# Altium footprint library Interface.PcbLib: 169 footprints (part 5 of 11)
Each footprint in its own frame and in the unit in brackets; x right, y up, seen from the top. Pads: shape width x height; smd on the part's side, far side on the other; paste and mask are expansions set on the pad; w line width, h text height; cw(c..) or ccw(c..) is an arc to the next point about the centre after c.
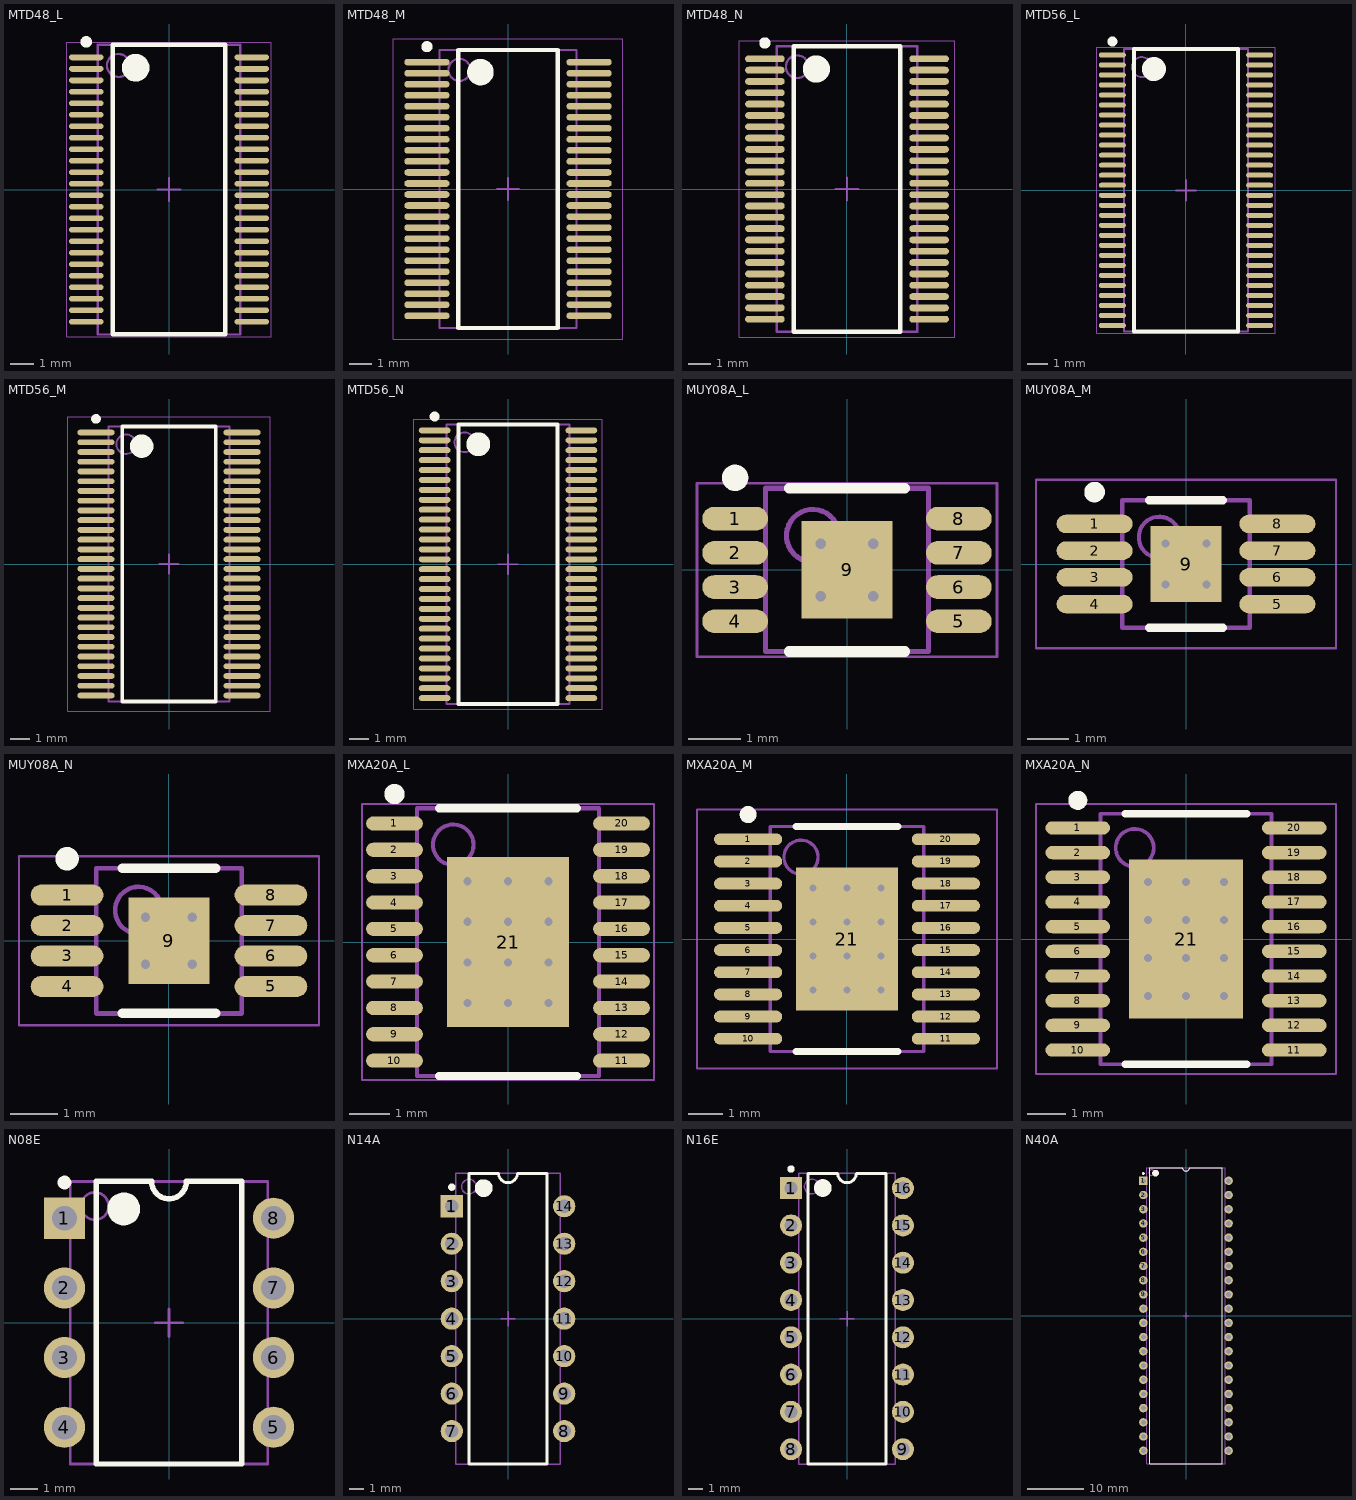
[diagram p4: the footprints below, top view; thin cyan lines are the x and y axes]

## MTD48_L [mm] "TSSOP, 48-Leads, Body 12.5x6.1mm, Pitch 0.5mm, IPC High Density"
height 1.1
pads (48):
  oval 1.5x0.25 smd: 1(-3.6,5.75) 2(-3.6,5.25) 3(-3.6,4.75) 4(-3.6,4.25) 5(-3.6,3.75) 6(-3.6,3.25) 7(-3.6,2.75) 8(-3.6,2.25) 9(-3.6,1.75) 10(-3.6,1.25) 11(-3.6,0.75) 12(-3.6,0.25) 13(-3.6,-0.25) 14(-3.6,-0.75) 15(-3.6,-1.25) 16(-3.6,-1.75) 17(-3.6,-2.25) 18(-3.6,-2.75) 19(-3.6,-3.25) 20(-3.6,-3.75) 21(-3.6,-4.25) 22(-3.6,-4.75) 23(-3.6,-5.25) 24(-3.6,-5.75) 25(3.6,-5.75) 26(3.6,-5.25) 27(3.6,-4.75) 28(3.6,-4.25) 29(3.6,-3.75) 30(3.6,-3.25) 31(3.6,-2.75) 32(3.6,-2.25) 33(3.6,-1.75) 34(3.6,-1.25) 35(3.6,-0.75) 36(3.6,-0.25) 37(3.6,0.25) 38(3.6,0.75) 39(3.6,1.25) 40(3.6,1.75) 41(3.6,2.25) 42(3.6,2.75) 43(3.6,3.25) 44(3.6,3.75) 45(3.6,4.25) 46(3.6,4.75) 47(3.6,5.25) 48(3.6,5.75)
Top Overlay:
  circle w0.6: c-1.45,5.3 r0.3
  circle w0.25: c-3.6,6.425 r0.125
  lines w0.2: -2.45,-6.3 2.45,-6.3 2.45,6.3 -2.45,6.3 -2.45,-6.3
Mechanical 13:
  circle w0.1: c-2.2,5.4 r0.5
  lines w0.1: -3.1,-6.3 3.1,-6.3 3.1,6.3 -3.1,6.3 -3.1,-6.3
Mechanical 15:
  lines w0.05: -4.45,-6.4 4.45,-6.4 4.45,6.4 -4.45,6.4 -4.45,-6.4
  lines w0.1: -0.5,0 0.5,0 ; 0,-0.5 0,0.5
3D body: height 1.1, standoff 0.05, extent -3.1,-6.3 3.1,6.3

## MTD48_M [mm] "TSSOP, 48-Leads, Body 12.5x6.1mm, Pitch 0.5mm, IPC Low Density"
height 1.1
pads (48):
  oval 2.05x0.3 smd: 1(-3.675,5.75) 2(-3.675,5.25) 3(-3.675,4.75) 4(-3.675,4.25) 5(-3.675,3.75) 6(-3.675,3.25) 7(-3.675,2.75) 8(-3.675,2.25) 9(-3.675,1.75) 10(-3.675,1.25) 11(-3.675,0.75) 12(-3.675,0.25) 13(-3.675,-0.25) 14(-3.675,-0.75) 15(-3.675,-1.25) 16(-3.675,-1.75) 17(-3.675,-2.25) 18(-3.675,-2.75) 19(-3.675,-3.25) 20(-3.675,-3.75) 21(-3.675,-4.25) 22(-3.675,-4.75) 23(-3.675,-5.25) 24(-3.675,-5.75) 25(3.675,-5.75) 26(3.675,-5.25) 27(3.675,-4.75) 28(3.675,-4.25) 29(3.675,-3.75) 30(3.675,-3.25) 31(3.675,-2.75) 32(3.675,-2.25) 33(3.675,-1.75) 34(3.675,-1.25) 35(3.675,-0.75) 36(3.675,-0.25) 37(3.675,0.25) 38(3.675,0.75) 39(3.675,1.25) 40(3.675,1.75) 41(3.675,2.25) 42(3.675,2.75) 43(3.675,3.25) 44(3.675,3.75) 45(3.675,4.25) 46(3.675,4.75) 47(3.675,5.25) 48(3.675,5.75)
Top Overlay:
  circle w0.6: c-1.25,5.3 r0.3
  circle w0.25: c-3.675,6.45 r0.125
  lines w0.2: -2.25,-6.3 2.25,-6.3 2.25,6.3 -2.25,6.3 -2.25,-6.3
Mechanical 13:
  circle w0.1: c-2.2,5.4 r0.5
  lines w0.1: -3.1,-6.3 3.1,-6.3 3.1,6.3 -3.1,6.3 -3.1,-6.3
Mechanical 15:
  lines w0.05: -5.2,-6.8 5.2,-6.8 5.2,6.8 -5.2,6.8 -5.2,-6.8
  lines w0.1: -0.5,0 0.5,0 ; 0,-0.5 0,0.5
3D body: height 1.1, standoff 0.05, extent -3.1,-6.3 3.1,6.3

## MTD48_N [mm] "TSSOP, 48-Leads, Body 12.5x6.1mm, Pitch 0.5mm, IPC Medium Density"
height 1.1
pads (48):
  oval 1.75x0.3 smd: 1(-3.625,5.75) 2(-3.625,5.25) 3(-3.625,4.75) 4(-3.625,4.25) 5(-3.625,3.75) 6(-3.625,3.25) 7(-3.625,2.75) 8(-3.625,2.25) 9(-3.625,1.75) 10(-3.625,1.25) 11(-3.625,0.75) 12(-3.625,0.25) 13(-3.625,-0.25) 14(-3.625,-0.75) 15(-3.625,-1.25) 16(-3.625,-1.75) 17(-3.625,-2.25) 18(-3.625,-2.75) 19(-3.625,-3.25) 20(-3.625,-3.75) 21(-3.625,-4.25) 22(-3.625,-4.75) 23(-3.625,-5.25) 24(-3.625,-5.75) 25(3.625,-5.75) 26(3.625,-5.25) 27(3.625,-4.75) 28(3.625,-4.25) 29(3.625,-3.75) 30(3.625,-3.25) 31(3.625,-2.75) 32(3.625,-2.25) 33(3.625,-1.75) 34(3.625,-1.25) 35(3.625,-0.75) 36(3.625,-0.25) 37(3.625,0.25) 38(3.625,0.75) 39(3.625,1.25) 40(3.625,1.75) 41(3.625,2.25) 42(3.625,2.75) 43(3.625,3.25) 44(3.625,3.75) 45(3.625,4.25) 46(3.625,4.75) 47(3.625,5.25) 48(3.625,5.75)
Top Overlay:
  circle w0.6: c-1.35,5.3 r0.3
  circle w0.25: c-3.625,6.45 r0.125
  lines w0.2: -2.35,-6.3 2.35,-6.3 2.35,6.3 -2.35,6.3 -2.35,-6.3
Mechanical 13:
  circle w0.1: c-2.2,5.4 r0.5
  lines w0.1: -3.1,-6.3 3.1,-6.3 3.1,6.3 -3.1,6.3 -3.1,-6.3
Mechanical 15:
  lines w0.05: -4.75,-6.55 4.75,-6.55 4.75,6.55 -4.75,6.55 -4.75,-6.55
  lines w0.1: -0.5,0 0.5,0 ; 0,-0.5 0,0.5
3D body: height 1.1, standoff 0.05, extent -3.1,-6.3 3.1,6.3

## MTD56_L [mm] "TSSOP, 56-Leads, Body 14x6.1mm, Pitch 0.5mm, IPC High Density"
height 1.1
pads (56):
  oval 1.35x0.25 smd: 1(-3.675,6.75) 2(-3.675,6.25) 3(-3.675,5.75) 4(-3.675,5.25) 5(-3.675,4.75) 6(-3.675,4.25) 7(-3.675,3.75) 8(-3.675,3.25) 9(-3.675,2.75) 10(-3.675,2.25) 11(-3.675,1.75) 12(-3.675,1.25) 13(-3.675,0.75) 14(-3.675,0.25) 15(-3.675,-0.25) 16(-3.675,-0.75) 17(-3.675,-1.25) 18(-3.675,-1.75) 19(-3.675,-2.25) 20(-3.675,-2.75) 21(-3.675,-3.25) 22(-3.675,-3.75) 23(-3.675,-4.25) 24(-3.675,-4.75) 25(-3.675,-5.25) 26(-3.675,-5.75) 27(-3.675,-6.25) 28(-3.675,-6.75) 29(3.675,-6.75) 30(3.675,-6.25) 31(3.675,-5.75) 32(3.675,-5.25) 33(3.675,-4.75) 34(3.675,-4.25) 35(3.675,-3.75) 36(3.675,-3.25) 37(3.675,-2.75) 38(3.675,-2.25) 39(3.675,-1.75) 40(3.675,-1.25) 41(3.675,-0.75) 42(3.675,-0.25) 43(3.675,0.25) 44(3.675,0.75) 45(3.675,1.25) 46(3.675,1.75) 47(3.675,2.25) 48(3.675,2.75) 49(3.675,3.25) 50(3.675,3.75) 51(3.675,4.25) 52(3.675,4.75) 53(3.675,5.25) 54(3.675,5.75) 55(3.675,6.25) 56(3.675,6.75)
Top Overlay:
  circle w0.6: c-1.6,6.05 r0.3
  circle w0.25: c-3.675,7.425 r0.125
  lines w0.2: -2.6,-7.05 2.6,-7.05 2.6,7.05 -2.6,7.05 -2.6,-7.05
Mechanical 13:
  circle w0.1: c-2.2,6.15 r0.5
  lines w0.1: -3.1,-7.05 3.1,-7.05 3.1,7.05 -3.1,7.05 -3.1,-7.05
Mechanical 15:
  lines w0.05: -4.45,-7.15 4.45,-7.15 4.45,7.15 -4.45,7.15 -4.45,-7.15
  lines w0.1: -0.5,0 0.5,0 ; 0,-0.5 0,0.5
3D body: height 1.1, standoff 0.05, extent -3.1,-7.05 3.1,7.05

## MTD56_M [mm] "TSSOP, 56-Leads, Body 14x6.1mm, Pitch 0.5mm, IPC Low Density"
height 1.1
pads (56):
  oval 1.9x0.3 smd: 1(-3.75,6.75) 2(-3.75,6.25) 3(-3.75,5.75) 4(-3.75,5.25) 5(-3.75,4.75) 6(-3.75,4.25) 7(-3.75,3.75) 8(-3.75,3.25) 9(-3.75,2.75) 10(-3.75,2.25) 11(-3.75,1.75) 12(-3.75,1.25) 13(-3.75,0.75) 14(-3.75,0.25) 15(-3.75,-0.25) 16(-3.75,-0.75) 17(-3.75,-1.25) 18(-3.75,-1.75) 19(-3.75,-2.25) 20(-3.75,-2.75) 21(-3.75,-3.25) 22(-3.75,-3.75) 23(-3.75,-4.25) 24(-3.75,-4.75) 25(-3.75,-5.25) 26(-3.75,-5.75) 27(-3.75,-6.25) 28(-3.75,-6.75) 29(3.75,-6.75) 30(3.75,-6.25) 31(3.75,-5.75) 32(3.75,-5.25) 33(3.75,-4.75) 34(3.75,-4.25) 35(3.75,-3.75) 36(3.75,-3.25) 37(3.75,-2.75) 38(3.75,-2.25) 39(3.75,-1.75) 40(3.75,-1.25) 41(3.75,-0.75) 42(3.75,-0.25) 43(3.75,0.25) 44(3.75,0.75) 45(3.75,1.25) 46(3.75,1.75) 47(3.75,2.25) 48(3.75,2.75) 49(3.75,3.25) 50(3.75,3.75) 51(3.75,4.25) 52(3.75,4.75) 53(3.75,5.25) 54(3.75,5.75) 55(3.75,6.25) 56(3.75,6.75)
Top Overlay:
  circle w0.6: c-1.4,6.05 r0.3
  circle w0.25: c-3.75,7.45 r0.125
  lines w0.2: -2.4,-7.05 2.4,-7.05 2.4,7.05 -2.4,7.05 -2.4,-7.05
Mechanical 13:
  circle w0.1: c-2.2,6.15 r0.5
  lines w0.1: -3.1,-7.05 3.1,-7.05 3.1,7.05 -3.1,7.05 -3.1,-7.05
Mechanical 15:
  lines w0.05: -5.2,-7.55 5.2,-7.55 5.2,7.55 -5.2,7.55 -5.2,-7.55
  lines w0.1: -0.5,0 0.5,0 ; 0,-0.5 0,0.5
3D body: height 1.1, standoff 0.05, extent -3.1,-7.05 3.1,7.05

## MTD56_N [mm] "TSSOP, 56-Leads, Body 14x6.1mm, Pitch 0.5mm, IPC Medium Density"
height 1.1
pads (56):
  oval 1.6x0.3 smd: 1(-3.7,6.75) 2(-3.7,6.25) 3(-3.7,5.75) 4(-3.7,5.25) 5(-3.7,4.75) 6(-3.7,4.25) 7(-3.7,3.75) 8(-3.7,3.25) 9(-3.7,2.75) 10(-3.7,2.25) 11(-3.7,1.75) 12(-3.7,1.25) 13(-3.7,0.75) 14(-3.7,0.25) 15(-3.7,-0.25) 16(-3.7,-0.75) 17(-3.7,-1.25) 18(-3.7,-1.75) 19(-3.7,-2.25) 20(-3.7,-2.75) 21(-3.7,-3.25) 22(-3.7,-3.75) 23(-3.7,-4.25) 24(-3.7,-4.75) 25(-3.7,-5.25) 26(-3.7,-5.75) 27(-3.7,-6.25) 28(-3.7,-6.75) 29(3.7,-6.75) 30(3.7,-6.25) 31(3.7,-5.75) 32(3.7,-5.25) 33(3.7,-4.75) 34(3.7,-4.25) 35(3.7,-3.75) 36(3.7,-3.25) 37(3.7,-2.75) 38(3.7,-2.25) 39(3.7,-1.75) 40(3.7,-1.25) 41(3.7,-0.75) 42(3.7,-0.25) 43(3.7,0.25) 44(3.7,0.75) 45(3.7,1.25) 46(3.7,1.75) 47(3.7,2.25) 48(3.7,2.75) 49(3.7,3.25) 50(3.7,3.75) 51(3.7,4.25) 52(3.7,4.75) 53(3.7,5.25) 54(3.7,5.75) 55(3.7,6.25) 56(3.7,6.75)
Top Overlay:
  circle w0.6: c-1.5,6.05 r0.3
  circle w0.25: c-3.7,7.45 r0.125
  lines w0.2: -2.5,-7.05 2.5,-7.05 2.5,7.05 -2.5,7.05 -2.5,-7.05
Mechanical 13:
  circle w0.1: c-2.2,6.15 r0.5
  lines w0.1: -3.1,-7.05 3.1,-7.05 3.1,7.05 -3.1,7.05 -3.1,-7.05
Mechanical 15:
  lines w0.05: -4.75,-7.3 4.75,-7.3 4.75,7.3 -4.75,7.3 -4.75,-7.3
  lines w0.1: -0.5,0 0.5,0 ; 0,-0.5 0,0.5
3D body: height 1.1, standoff 0.05, extent -3.1,-7.05 3.1,7.05

## MUY08A_L [mm] "TSOP, 8-Leads, Body 3x3mm, Pitch 0.65mm, Thermal Pad, IPC High Density"
height 1.09
pads (9):
  oval 1.25x0.45 smd: 1(-2.125,0.975) 2(-2.125,0.325) 3(-2.125,-0.325) 4(-2.125,-0.975) 5(2.125,-0.975) 6(2.125,-0.325) 7(2.125,0.325) 8(2.125,0.975)
  rect 1.73x1.85 smd: 9(0,0)
via -0.5,0.5 diameter 0.4 hole 0.2
via 0.5,0.5 diameter 0.4 hole 0.2
via -0.5,-0.5 diameter 0.4 hole 0.2
via 0.5,-0.5 diameter 0.4 hole 0.2
Top Overlay:
  circle w0.25: c-2.125,1.75 r0.125
  lines w0.2: -1.1,-1.55 1.1,-1.55 ; -1.1,1.55 1.1,1.55
Mechanical 13:
  circle w0.1: c-0.65,0.65 r0.5
  lines w0.1: -1.55,-1.55 -1.55,1.55 1.55,1.55 1.55,-1.55 -1.55,-1.55
Mechanical 15:
  lines w0.05: -2.85,-1.65 -2.85,1.65 2.85,1.65 2.85,-1.65 -2.85,-1.65
  lines w0.1: -0.5,0 0.5,0 ; 0,-0.5 0,0.5
3D body: height 1.09, standoff 0.06, extent -1.55,-1.55 1.55,1.55

## MUY08A_M [mm] "TSOP, 8-Leads, Body 3x3mm, Pitch 0.65mm, Thermal Pad, IPC Low Density"
height 1.09
pads (9):
  oval 1.85x0.45 smd: 1(-2.225,0.975) 2(-2.225,0.325) 3(-2.225,-0.325) 4(-2.225,-0.975) 5(2.225,-0.975) 6(2.225,-0.325) 7(2.225,0.325) 8(2.225,0.975)
  rect 1.73x1.85 smd: 9(0,0)
via -0.5,0.5 diameter 0.4 hole 0.2
via 0.5,0.5 diameter 0.4 hole 0.2
via -0.5,-0.5 diameter 0.4 hole 0.2
via 0.5,-0.5 diameter 0.4 hole 0.2
Top Overlay:
  circle w0.25: c-2.225,1.75 r0.125
  lines w0.2: -0.9,-1.55 0.9,-1.55 ; -0.9,1.55 0.9,1.55
Mechanical 13:
  circle w0.1: c-0.65,0.65 r0.5
  lines w0.1: -1.55,-1.55 -1.55,1.55 1.55,1.55 1.55,-1.55 -1.55,-1.55
Mechanical 15:
  lines w0.05: -3.65,-2.05 -3.65,2.05 3.65,2.05 3.65,-2.05 -3.65,-2.05
  lines w0.1: -0.5,0 0.5,0 ; 0,-0.5 0,0.5
3D body: height 1.09, standoff 0.06, extent -1.55,-1.55 1.55,1.55

## MUY08A_N [mm] "TSOP, 8-Leads, Body 3x3mm, Pitch 0.65mm, Thermal Pad, IPC Medium Density"
height 1.09
pads (9):
  oval 1.55x0.45 smd: 1(-2.175,0.975) 2(-2.175,0.325) 3(-2.175,-0.325) 4(-2.175,-0.975) 5(2.175,-0.975) 6(2.175,-0.325) 7(2.175,0.325) 8(2.175,0.975)
  rect 1.73x1.85 smd: 9(0,0)
via 0.5,-0.5 diameter 0.4 hole 0.2
via -0.5,-0.5 diameter 0.4 hole 0.2
via 0.5,0.5 diameter 0.4 hole 0.2
via -0.5,0.5 diameter 0.4 hole 0.2
Top Overlay:
  circle w0.25: c-2.175,1.75 r0.125
  lines w0.2: -1,-1.55 1,-1.55 ; -1,1.55 1,1.55
Mechanical 13:
  circle w0.1: c-0.65,0.65 r0.5
  lines w0.1: -1.55,-1.55 1.55,-1.55 1.55,1.55 -1.55,1.55 -1.55,-1.55
Mechanical 15:
  lines w0.05: -3.2,-1.8 3.2,-1.8 3.2,1.8 -3.2,1.8 -3.2,-1.8
  lines w0.1: -0.5,0 0.5,0 ; 0,-0.5 0,0.5
3D body: height 1.09, standoff 0.06, extent -1.55,-1.55 1.55,1.55

## MXA20A_L [mm] "TSOP, 20-Leads, Body 6.5x4.4mm, Pitch 0.65mm, Thermal Pad, IPC High Density"
height 1.1
pads (21):
  oval 1.4x0.35 smd: 1(-2.8,2.925) 2(-2.8,2.275) 3(-2.8,1.625) 4(-2.8,0.975) 5(-2.8,0.325) 6(-2.8,-0.325) 7(-2.8,-0.975) 8(-2.8,-1.625) 9(-2.8,-2.275) 10(-2.8,-2.925) 11(2.8,-2.925) 12(2.8,-2.275) 13(2.8,-1.625) 14(2.8,-0.975) 15(2.8,-0.325) 16(2.8,0.325) 17(2.8,0.975) 18(2.8,1.625) 19(2.8,2.275) 20(2.8,2.925)
  rect 3x4.2 smd: 21(0,0)
via 0,1.5 diameter 0.5 hole 0.2
via 1,1.5 diameter 0.5 hole 0.2
via -1,1.5 diameter 0.5 hole 0.2
via -1,0.5 diameter 0.5 hole 0.2
via -1,-0.5 diameter 0.5 hole 0.2
via -1,-1.5 diameter 0.5 hole 0.2
via 1,-1.5 diameter 0.5 hole 0.2
via 0,-1.5 diameter 0.5 hole 0.2
via 1,-0.5 diameter 0.5 hole 0.2
via 0,-0.5 diameter 0.5 hole 0.2
via 1,0.5 diameter 0.5 hole 0.2
via 0,0.5 diameter 0.5 hole 0.2
Top Overlay:
  circle w0.25: c-2.8,3.65 r0.125
  lines w0.2: -1.7,-3.3 1.7,-3.3 ; -1.7,3.3 1.7,3.3
Mechanical 13:
  circle w0.1: c-1.35,2.4 r0.5
  lines w0.1: -2.25,-3.3 -2.25,3.3 2.25,3.3 2.25,-3.3 -2.25,-3.3
Mechanical 15:
  lines w0.05: -3.6,-3.4 -3.6,3.4 3.6,3.4 3.6,-3.4 -3.6,-3.4
  lines w0.1: -0.5,0 0.5,0 ; 0,-0.5 0,0.5
3D body: height 1.1, standoff 0.05, extent -2.25,-3.3 2.25,3.3

## MXA20A_M [mm] "TSOP, 20-Leads, Body 6.5x4.4mm, Pitch 0.65mm, Thermal Pad, IPC Low Density"
height 1.1
pads (21):
  oval 2x0.35 smd: 1(-2.9,2.925) 2(-2.9,2.275) 3(-2.9,1.625) 4(-2.9,0.975) 5(-2.9,0.325) 6(-2.9,-0.325) 7(-2.9,-0.975) 8(-2.9,-1.625) 9(-2.9,-2.275) 10(-2.9,-2.925) 11(2.9,-2.925) 12(2.9,-2.275) 13(2.9,-1.625) 14(2.9,-0.975) 15(2.9,-0.325) 16(2.9,0.325) 17(2.9,0.975) 18(2.9,1.625) 19(2.9,2.275) 20(2.9,2.925)
  rect 3x4.2 smd: 21(0,0)
via 0,0.5 diameter 0.5 hole 0.2
via 1,0.5 diameter 0.5 hole 0.2
via 0,-0.5 diameter 0.5 hole 0.2
via 1,-0.5 diameter 0.5 hole 0.2
via 0,-1.5 diameter 0.5 hole 0.2
via 1,-1.5 diameter 0.5 hole 0.2
via -1,-1.5 diameter 0.5 hole 0.2
via -1,-0.5 diameter 0.5 hole 0.2
via -1,0.5 diameter 0.5 hole 0.2
via -1,1.5 diameter 0.5 hole 0.2
via 1,1.5 diameter 0.5 hole 0.2
via 0,1.5 diameter 0.5 hole 0.2
Top Overlay:
  circle w0.25: c-2.9,3.65 r0.125
  lines w0.2: -1.5,-3.3 1.5,-3.3 ; -1.5,3.3 1.5,3.3
Mechanical 13:
  circle w0.1: c-1.35,2.4 r0.5
  lines w0.1: -2.25,-3.3 2.25,-3.3 2.25,3.3 -2.25,3.3 -2.25,-3.3
Mechanical 15:
  lines w0.05: -4.4,-3.8 4.4,-3.8 4.4,3.8 -4.4,3.8 -4.4,-3.8
  lines w0.1: -0.5,0 0.5,0 ; 0,-0.5 0,0.5
3D body: height 1.1, standoff 0.05, extent -2.25,-3.3 2.25,3.3

## MXA20A_N [mm] "TSOP, 20-Leads, Body 6.5x4.4mm, Pitch 0.65mm, Thermal Pad, IPC Medium Density"
height 1.1
pads (21):
  oval 1.7x0.35 smd: 1(-2.85,2.925) 2(-2.85,2.275) 3(-2.85,1.625) 4(-2.85,0.975) 5(-2.85,0.325) 6(-2.85,-0.325) 7(-2.85,-0.975) 8(-2.85,-1.625) 9(-2.85,-2.275) 10(-2.85,-2.925) 11(2.85,-2.925) 12(2.85,-2.275) 13(2.85,-1.625) 14(2.85,-0.975) 15(2.85,-0.325) 16(2.85,0.325) 17(2.85,0.975) 18(2.85,1.625) 19(2.85,2.275) 20(2.85,2.925)
  rect 3x4.2 smd: 21(0,0)
via 0,1.5 diameter 0.5 hole 0.2
via 1,1.5 diameter 0.5 hole 0.2
via -1,1.5 diameter 0.5 hole 0.2
via -1,0.5 diameter 0.5 hole 0.2
via -1,-0.5 diameter 0.5 hole 0.2
via -1,-1.5 diameter 0.5 hole 0.2
via 1,-1.5 diameter 0.5 hole 0.2
via 0,-1.5 diameter 0.5 hole 0.2
via 1,-0.5 diameter 0.5 hole 0.2
via 0,-0.5 diameter 0.5 hole 0.2
via 1,0.5 diameter 0.5 hole 0.2
via 0,0.5 diameter 0.5 hole 0.2
Top Overlay:
  circle w0.25: c-2.85,3.65 r0.125
  lines w0.2: -1.6,-3.3 1.6,-3.3 ; -1.6,3.3 1.6,3.3
Mechanical 13:
  circle w0.1: c-1.35,2.4 r0.5
  lines w0.1: -2.25,-3.3 2.25,-3.3 2.25,3.3 -2.25,3.3 -2.25,-3.3
Mechanical 15:
  lines w0.05: -3.95,-3.55 3.95,-3.55 3.95,3.55 -3.95,3.55 -3.95,-3.55
  lines w0.1: -0.5,0 0.5,0 ; 0,-0.5 0,0.5
3D body: height 1.1, standoff 0.05, extent -2.25,-3.3 2.25,3.3

## N08E [mm] "DIP, 8-Pin, Row Spacing 7.62 mm, Pitch 2.54 mm"
height 5.34
pads (8):
  rect 1.5x1.5 hole 0.9: 1(-3.81,3.81)
  round 1.5 hole 0.9: 2(-3.81,1.27) 3(-3.81,-1.27) 4(-3.81,-3.81) 5(3.81,-3.81) 6(3.81,-1.27) 7(3.81,1.27) 8(3.81,3.81)
Top Overlay:
  circle w0.6: c-1.65,4.15 r0.3
  circle w0.25: c-3.81,5.11 r0.125
  lines w0.2: -2.65,-5.15 2.65,-5.15 2.65,5.15 0.635,5.15 cw(c0,5.15) -0.635,5.15 -2.65,5.15 -2.65,-5.15
Mechanical 13:
  circle w0.1: c-2.7,4.25 r0.5
  lines w0.1: -3.6,-5.15 3.6,-5.15 3.6,5.15 -3.6,5.15 -3.6,-5.15
Mechanical 15:
  lines w0.1: -0.5,0 0.5,0 ; 0,-0.5 0,0.5
3D body: height 5.34, standoff 0, extent -3.6,-5.15 3.6,5.15

## N14A [mm] "DIP, 14-Pin, Row Spacing 7.62 mm, Pitch 2.54 mm"
height 5.08
pads (14):
  rect 1.5x1.5 hole 0.9: 1(-3.81,7.62)
  round 1.5 hole 0.9: 2(-3.81,5.08) 3(-3.81,2.54) 4(-3.81,0) 5(-3.81,-2.54) 6(-3.81,-5.08) 7(-3.81,-7.62) 8(3.81,-7.62) 9(3.81,-5.08) 10(3.81,-2.54) 11(3.81,0) 12(3.81,2.54) 13(3.81,5.08) 14(3.81,7.62)
Top Overlay:
  circle w0.25: c-3.81,8.92 r0.125
  circle w0.6: c-1.65,8.85 r0.3
  lines w0.2: -2.65,-9.85 -2.65,9.85 -0.635,9.85 ccw(c0,9.85) 0.635,9.85 2.65,9.85 2.65,-9.85 -2.65,-9.85
Mechanical 13:
  circle w0.1: c-2.65,8.95 r0.5
  lines w0.1: -3.55,-9.85 -3.55,9.85 3.55,9.85 3.55,-9.85 -3.55,-9.85
Mechanical 15:
  lines w0.1: -0.5,0 0.5,0 ; 0,-0.5 0,0.5
3D body: height 5.08, standoff 0, extent -3.55,-9.85 3.55,9.85

## N16E [mm] "DIP, 16-Pin, Row Spacing 7.62 mm, Pitch 2.54 mm"
height 4.32
pads (16):
  rect 1.5x1.5 hole 0.9: 1(-3.81,8.89)
  round 1.5 hole 0.9: 2(-3.81,6.35) 3(-3.81,3.81) 4(-3.81,1.27) 5(-3.81,-1.27) 6(-3.81,-3.81) 7(-3.81,-6.35) 8(-3.81,-8.89) 9(3.81,-8.89) 10(3.81,-6.35) 11(3.81,-3.81) 12(3.81,-1.27) 13(3.81,1.27) 14(3.81,3.81) 15(3.81,6.35) 16(3.81,8.89)
Top Overlay:
  circle w0.25: c-3.81,10.19 r0.125
  circle w0.6: c-1.65,8.9 r0.3
  lines w0.2: -2.65,-9.9 -2.65,9.9 -0.635,9.9 ccw(c0,9.9) 0.635,9.9 2.65,9.9 2.65,-9.9 -2.65,-9.9
Mechanical 13:
  circle w0.1: c-2.4,9 r0.5
  lines w0.1: -3.3,-9.9 -3.3,9.9 3.3,9.9 3.3,-9.9 -3.3,-9.9
Mechanical 15:
  lines w0.1: -0.5,0 0.5,0 ; 0,-0.5 0,0.5
3D body: height 4.32, standoff 0, extent -3.3,-9.9 3.3,9.9

## N40A [mm] "40-Pin Ceramic Dual In-Line Package (CerDIP)"
height 5.34
pads (40):
  rect 1.5x1.5 hole 0.9: 1(-7.62,24.13)
  round 1.5 hole 0.9: 2(-7.62,21.59) 3(-7.62,19.05) 4(-7.62,16.51) 5(-7.62,13.97) 6(-7.62,11.43) 7(-7.62,8.89) 8(-7.62,6.35) 9(-7.62,3.81) 10(-7.62,1.27) 11(-7.62,-1.27) 12(-7.62,-3.81) 13(-7.62,-6.35) 14(-7.62,-8.89) 15(-7.62,-11.43) 16(-7.62,-13.97) 17(-7.62,-16.51) 18(-7.62,-19.05) 19(-7.62,-21.59) 20(-7.62,-24.13) 21(7.62,-24.13) 22(7.62,-21.59) 23(7.62,-19.05) 24(7.62,-16.51) 25(7.62,-13.97) 26(7.62,-11.43) 27(7.62,-8.89) 28(7.62,-6.35) 29(7.62,-3.81) 30(7.62,-1.27) 31(7.62,1.27) 32(7.62,3.81) 33(7.62,6.35) 34(7.62,8.89) 35(7.62,11.43) 36(7.62,13.97) 37(7.62,16.51) 38(7.62,19.05) 39(7.62,21.59) 40(7.62,24.13)
Top Overlay:
  circle w0.25: c-7.62,25.43 r0.125
  circle w0.6: c-5.45,25.5 r0.3
  lines w0.2: -6.45,-26.5 -6.45,26.5 -0.635,26.5 ccw(c0,26.5) 0.635,26.5 6.45,26.5 6.45,-26.5 -6.45,-26.5
Mechanical 13:
  circle w0.1: c-6.15,25.575 r0.5
  lines w0.1: -7.05,-26.475 -7.05,26.475 7.05,26.475 7.05,-26.475 -7.05,-26.475
Mechanical 15:
  lines w0.1: -0.5,0 0.5,0 ; 0,-0.5 0,0.5
3D body: height 5.34, standoff 0, extent -7.05,-26.475 7.05,26.475